# EAGLE library part KXR94-2050MODULE (library akizuki_kxr94-2050module)
秋月KXR94-2050モジュール http://akizukidenshi.com/catalog/g/gM-05153/
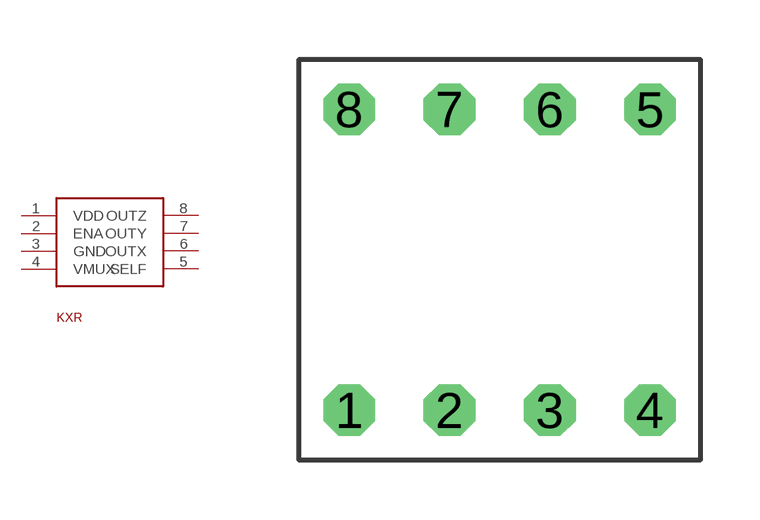
[diagram p0: symbol with the pads of KXR94-2050MODULE; footprint KXR94-2050MODULE]

Designator prefix KXR

## KXR94-2050MODULE  [KXR94-2050MODULE]
1  VDD
2  ENA
3  GND
4  VMUX
5  SELF
6  OUTX
7  OUTY
8  OUTZ

## Footprint KXR94-2050MODULE (pad centres in mm)
秋月KXR94-2050モジュール http://akizukidenshi.com/catalog/g/gM-05153/
drill 0.8 octagon: 1 -3.81,-3.81; 2 -1.27,-3.81; 3 1.27,-3.81; 4 3.81,-3.81; 5 3.81,3.81; 6 1.27,3.81; 7 -1.27,3.81; 8 -3.81,3.81